# Altium integrated library Analog Devices RF IF PLL Synthesizers and VCOs.IntLib: 183 symbols (part 2 of 15)
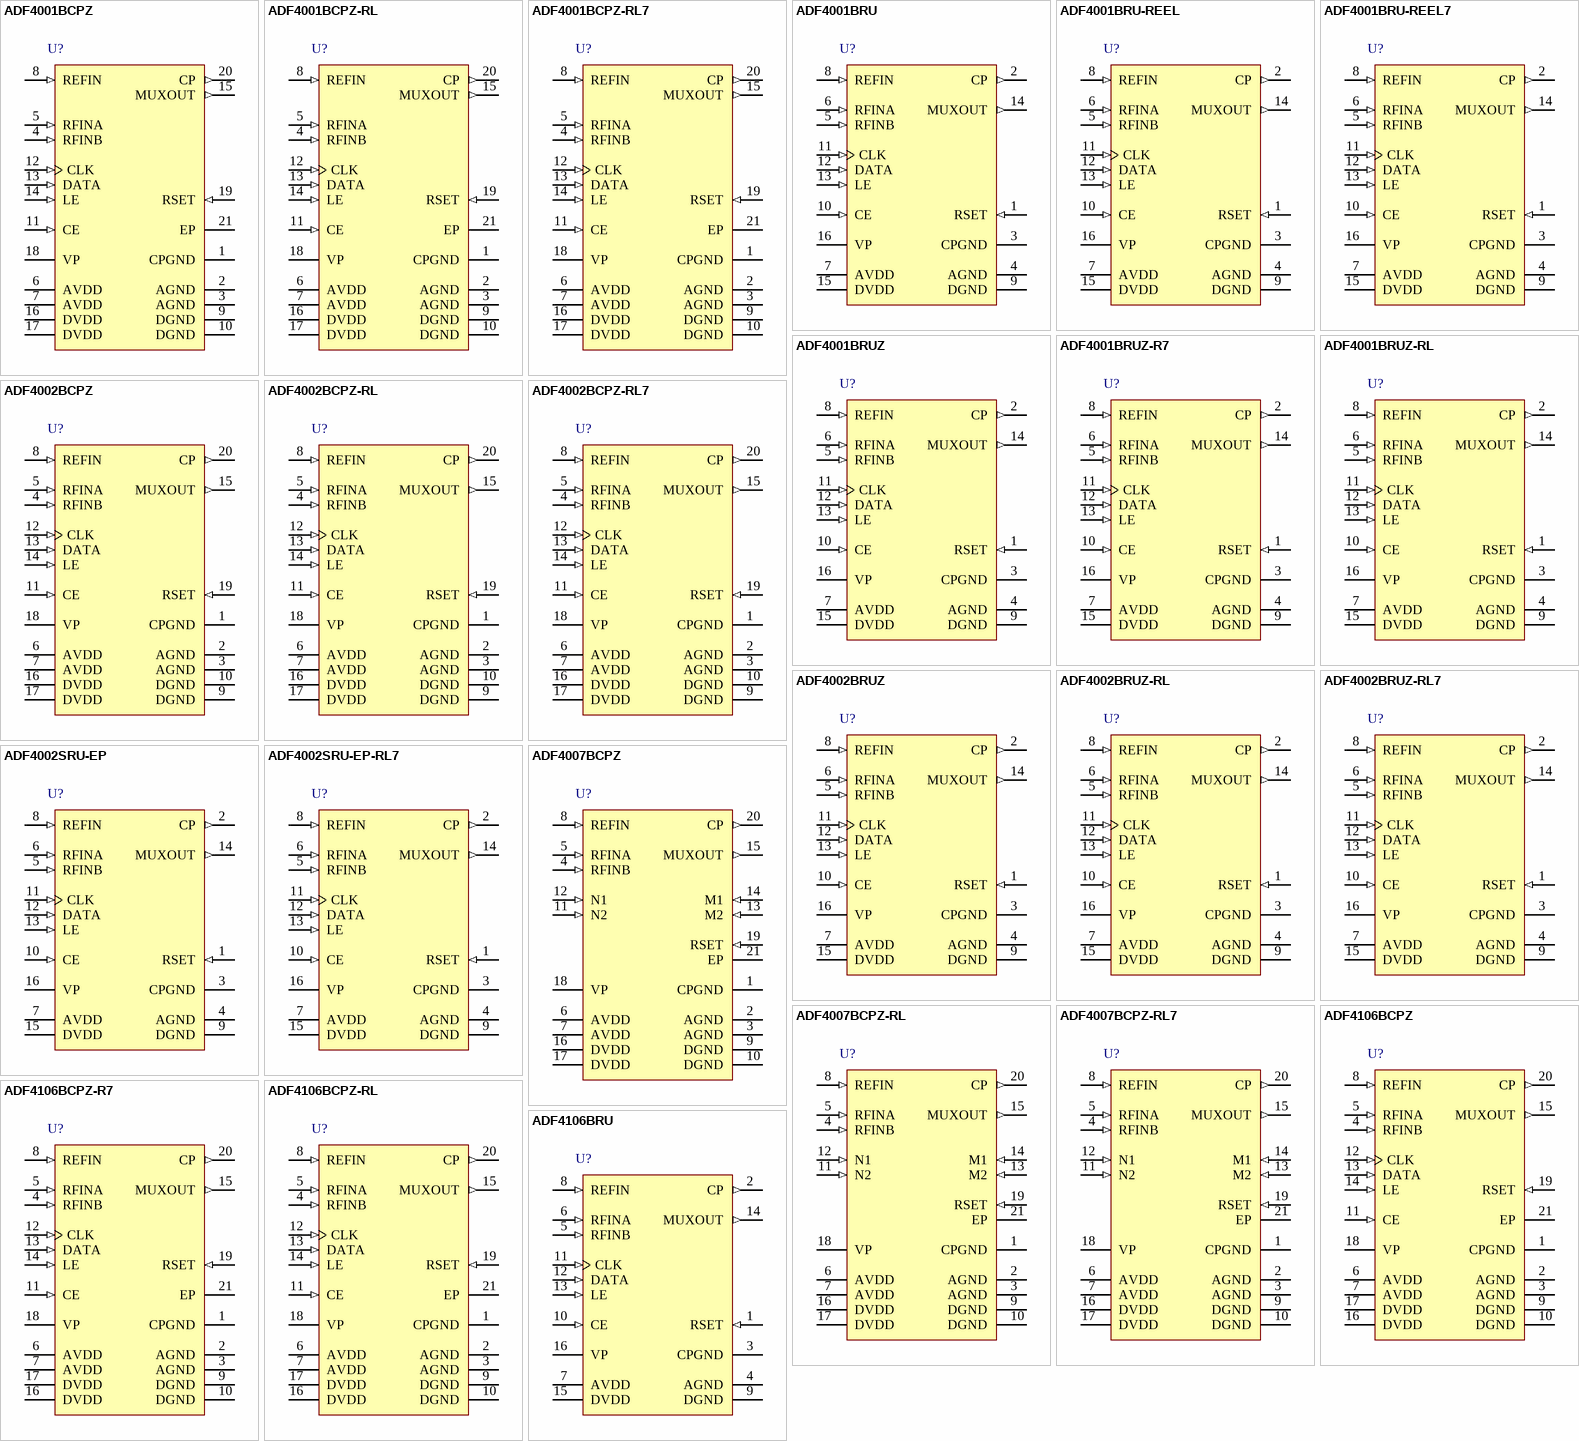
[diagram p9: symbols ADF4001BCPZ to ADF4106BRU]

## ADF4002BRUZ-RL
designator U?
Phase Detector/Frequency Synthesizer, RU-16, Pb-Free, 2500 Reel; Single/Dual: Single; Max RF Input (MHz): 400MHz; Max REFin (MHz): 300MHz; Norm Phase Noise (dBc/Hz): -222dBc; Frequency Range: 5MHz-400MHz; Supply Current: 5mA; DatasheetVersion: Rev. B; PackageVersion: Nov-2002; PackageReference: RU-16; PackageDescription: 16-Lead Thin Shrink Small Outline Package [TSSOP]; Code_JEDEC: MO-153AB; ComponentLink1Description: Manufacturer URL; ComponentLink1URL: www.analog.com; ComponentLink2Description: Datasheet; ComponentLink2URL: http://www.analog.com/static/imported-files/data_sheets/ADF4002.pdf; ComponentLink3Description: Package Specification; ComponentLink3URL: http://www.analog.com/static/imported-files/packages/36244347913743854010197452789RU16.pdf
footprint ADI-RU-16_N (TSOP, 16-Leads, Body 5x4.4mm, Pitch 0.65mm, IPC Medium Density)
footprint ADI-RU-16_L (TSOP, 16-Leads, Body 5x4.4mm, Pitch 0.65mm, IPC High Density)
footprint ADI-RU-16_M (TSOP, 16-Leads, Body 5x4.4mm, Pitch 0.65mm, IPC Low Density)
pins: 1 RSET (in) "Connecting a resistor between this pin and CPGND sets the maximum charge pump output current. The nominal voltage potential at the RSET pin is 0.66 V. [see datasheet]", 2 CP (out) "Charge Pump Output. When enabled, this provides ±ICP to the external loop filter that, in turn, drives the external VCO.", 3 CPGND (power) "Charge Pump Ground. This is the ground return path for the charge pump.", 4 AGND (power) "Analog Ground. This is the ground return path of the RF input.", 5 RFINB (in) "Complementary Input to the RF Input. This point must be decoupled to the ground plane with a small bypass capacitor, typically 100 pF. See Figure 11.", 6 RFINA (in) "Input to the RF Input. This small signal input is ac-coupled to the external VCO.", 7 AVDD (power) "Analog Power Supply. This can range from 2.7 V to 3.3 V. Decoupling capacitors to the analog ground plane should be placed as close as possible to the AVDD pin. [see datasheet]", 8 REFIN (in) "Reference Input. This is a CMOS input with a nominal threshold of VDD/2 and a dc equivalent input resistance of 100 kO. See Figure 10. [see datasheet]", 9 DGND (power) "Digital Ground.", 10 CE (in) "Chip Enable. A logic low on this pin powers down the device and puts the charge pump output into three-state mode. [see datasheet]", 11 CLK (in) "Serial Clock Input. This serial clock is used to clock in the serial data to the registers. The data is latched into the 24-bit shift register on the CLK rising edge. [see datasheet]", 12 DATA (in) "Serial Data Input. The serial data is loaded MSB first with the two LSBs being the control bits. This input is a high impedance CMOS input.", 13 LE (in) "Load Enable, CMOS Input. When LE goes high, the data stored in the shift registers is loaded into one of the four latches; the latch is selected using the control bits.", 14 MUXOUT (out) "Multiplexer Output. This allows either the lock detect, the scaled RF, or the scaled reference frequency to be accessed externally.", 15 DVDD (power) "Digital Power Supply. This can range from 2.7 V to 3.3 V. Decoupling capacitors to the digital ground plane should be placed as close as possible to this pin. [see datasheet]", 16 VP (power) "Charge Pump Power Supply. This should be greater than or equal to VDD. In systems where VDD is 3 V, it can be set to 5.5 V and used to drive a VCO with a tuning range of up to 5 V."

## ADF4002BRUZ-RL7
designator U?
Phase Detector/Frequency Synthesizer, RU-16, Pb-Free, 1000 Reel; Single/Dual: Single; Max RF Input (MHz): 400MHz; Max REFin (MHz): 300MHz; Norm Phase Noise (dBc/Hz): -222dBc; Frequency Range: 5MHz-400MHz; Supply Current: 5mA; DatasheetVersion: Rev. B; PackageVersion: Nov-2002; PackageReference: RU-16; PackageDescription: 16-Lead Thin Shrink Small Outline Package [TSSOP]; Code_JEDEC: MO-153AB; ComponentLink1Description: Manufacturer URL; ComponentLink1URL: www.analog.com; ComponentLink2Description: Datasheet; ComponentLink2URL: http://www.analog.com/static/imported-files/data_sheets/ADF4002.pdf; ComponentLink3Description: Package Specification; ComponentLink3URL: http://www.analog.com/static/imported-files/packages/36244347913743854010197452789RU16.pdf
footprint ADI-RU-16_N (TSOP, 16-Leads, Body 5x4.4mm, Pitch 0.65mm, IPC Medium Density)
footprint ADI-RU-16_L (TSOP, 16-Leads, Body 5x4.4mm, Pitch 0.65mm, IPC High Density)
footprint ADI-RU-16_M (TSOP, 16-Leads, Body 5x4.4mm, Pitch 0.65mm, IPC Low Density)
pins: 1 RSET (in) "Connecting a resistor between this pin and CPGND sets the maximum charge pump output current. The nominal voltage potential at the RSET pin is 0.66 V. [see datasheet]", 2 CP (out) "Charge Pump Output. When enabled, this provides ±ICP to the external loop filter that, in turn, drives the external VCO.", 3 CPGND (power) "Charge Pump Ground. This is the ground return path for the charge pump.", 4 AGND (power) "Analog Ground. This is the ground return path of the RF input.", 5 RFINB (in) "Complementary Input to the RF Input. This point must be decoupled to the ground plane with a small bypass capacitor, typically 100 pF. See Figure 11.", 6 RFINA (in) "Input to the RF Input. This small signal input is ac-coupled to the external VCO.", 7 AVDD (power) "Analog Power Supply. This can range from 2.7 V to 3.3 V. Decoupling capacitors to the analog ground plane should be placed as close as possible to the AVDD pin. [see datasheet]", 8 REFIN (in) "Reference Input. This is a CMOS input with a nominal threshold of VDD/2 and a dc equivalent input resistance of 100 kO. See Figure 10. [see datasheet]", 9 DGND (power) "Digital Ground.", 10 CE (in) "Chip Enable. A logic low on this pin powers down the device and puts the charge pump output into three-state mode. [see datasheet]", 11 CLK (in) "Serial Clock Input. This serial clock is used to clock in the serial data to the registers. The data is latched into the 24-bit shift register on the CLK rising edge. [see datasheet]", 12 DATA (in) "Serial Data Input. The serial data is loaded MSB first with the two LSBs being the control bits. This input is a high impedance CMOS input.", 13 LE (in) "Load Enable, CMOS Input. When LE goes high, the data stored in the shift registers is loaded into one of the four latches; the latch is selected using the control bits.", 14 MUXOUT (out) "Multiplexer Output. This allows either the lock detect, the scaled RF, or the scaled reference frequency to be accessed externally.", 15 DVDD (power) "Digital Power Supply. This can range from 2.7 V to 3.3 V. Decoupling capacitors to the digital ground plane should be placed as close as possible to this pin. [see datasheet]", 16 VP (power) "Charge Pump Power Supply. This should be greater than or equal to VDD. In systems where VDD is 3 V, it can be set to 5.5 V and used to drive a VCO with a tuning range of up to 5 V."

## ADF4002SRU-EP
designator U?
Phase Detector/Frequency Synthesizer, RU-16, 96 Tube; Single/Dual: Single; Max RF Input (MHz): 400MHz; Max REFin (MHz): 300MHz; Norm Phase Noise (dBc/Hz): -222dBc; Frequency Range: 5MHz-400MHz; Supply Current: 5mA; DatasheetVersion: Rev. B; PackageVersion: Nov-2002; PackageReference: RU-16; PackageDescription: 16-Lead Thin Shrink Small Outline Package [TSSOP]; Code_JEDEC: MO-153AB; ComponentLink1Description: Manufacturer URL; ComponentLink1URL: www.analog.com; ComponentLink2Description: Datasheet; ComponentLink2URL: http://www.analog.com/static/imported-files/data_sheets/ADF4002.pdf; ComponentLink3Description: Package Specification; ComponentLink3URL: http://www.analog.com/static/imported-files/packages/36244347913743854010197452789RU16.pdf
footprint ADI-RU-16_N (TSOP, 16-Leads, Body 5x4.4mm, Pitch 0.65mm, IPC Medium Density)
footprint ADI-RU-16_L (TSOP, 16-Leads, Body 5x4.4mm, Pitch 0.65mm, IPC High Density)
footprint ADI-RU-16_M (TSOP, 16-Leads, Body 5x4.4mm, Pitch 0.65mm, IPC Low Density)
pins: 1 RSET (in) "Connecting a resistor between this pin and CPGND sets the maximum charge pump output current. The nominal voltage potential at the RSET pin is 0.66 V. [see datasheet]", 2 CP (out) "Charge Pump Output. When enabled, this provides ±ICP to the external loop filter that, in turn, drives the external VCO.", 3 CPGND (power) "Charge Pump Ground. This is the ground return path for the charge pump.", 4 AGND (power) "Analog Ground. This is the ground return path of the RF input.", 5 RFINB (in) "Complementary Input to the RF Input. This point must be decoupled to the ground plane with a small bypass capacitor, typically 100 pF. See Figure 11.", 6 RFINA (in) "Input to the RF Input. This small signal input is ac-coupled to the external VCO.", 7 AVDD (power) "Analog Power Supply. This can range from 2.7 V to 3.3 V. Decoupling capacitors to the analog ground plane should be placed as close as possible to the AVDD pin. [see datasheet]", 8 REFIN (in) "Reference Input. This is a CMOS input with a nominal threshold of VDD/2 and a dc equivalent input resistance of 100 kO. See Figure 10. [see datasheet]", 9 DGND (power) "Digital Ground.", 10 CE (in) "Chip Enable. A logic low on this pin powers down the device and puts the charge pump output into three-state mode. [see datasheet]", 11 CLK (in) "Serial Clock Input. This serial clock is used to clock in the serial data to the registers. The data is latched into the 24-bit shift register on the CLK rising edge. [see datasheet]", 12 DATA (in) "Serial Data Input. The serial data is loaded MSB first with the two LSBs being the control bits. This input is a high impedance CMOS input.", 13 LE (in) "Load Enable, CMOS Input. When LE goes high, the data stored in the shift registers is loaded into one of the four latches; the latch is selected using the control bits.", 14 MUXOUT (out) "Multiplexer Output. This allows either the lock detect, the scaled RF, or the scaled reference frequency to be accessed externally.", 15 DVDD (power) "Digital Power Supply. This can range from 2.7 V to 3.3 V. Decoupling capacitors to the digital ground plane should be placed as close as possible to this pin. [see datasheet]", 16 VP (power) "Charge Pump Power Supply. This should be greater than or equal to VDD. In systems where VDD is 3 V, it can be set to 5.5 V and used to drive a VCO with a tuning range of up to 5 V."

## ADF4002SRU-EP-RL7
designator U?
Phase Detector/Frequency Synthesizer, RU-16, 1000 Reel; Single/Dual: Single; Max RF Input (MHz): 400MHz; Max REFin (MHz): 300MHz; Norm Phase Noise (dBc/Hz): -222dBc; Frequency Range: 5MHz-400MHz; Supply Current: 5mA; DatasheetVersion: Rev. B; PackageVersion: Nov-2002; PackageReference: RU-16; PackageDescription: 16-Lead Thin Shrink Small Outline Package [TSSOP]; Code_JEDEC: MO-153AB; ComponentLink1Description: Manufacturer URL; ComponentLink1URL: www.analog.com; ComponentLink2Description: Datasheet; ComponentLink2URL: http://www.analog.com/static/imported-files/data_sheets/ADF4002.pdf; ComponentLink3Description: Package Specification; ComponentLink3URL: http://www.analog.com/static/imported-files/packages/36244347913743854010197452789RU16.pdf
footprint ADI-RU-16_N (TSOP, 16-Leads, Body 5x4.4mm, Pitch 0.65mm, IPC Medium Density)
footprint ADI-RU-16_L (TSOP, 16-Leads, Body 5x4.4mm, Pitch 0.65mm, IPC High Density)
footprint ADI-RU-16_M (TSOP, 16-Leads, Body 5x4.4mm, Pitch 0.65mm, IPC Low Density)
pins: 1 RSET (in) "Connecting a resistor between this pin and CPGND sets the maximum charge pump output current. The nominal voltage potential at the RSET pin is 0.66 V. [see datasheet]", 2 CP (out) "Charge Pump Output. When enabled, this provides ±ICP to the external loop filter that, in turn, drives the external VCO.", 3 CPGND (power) "Charge Pump Ground. This is the ground return path for the charge pump.", 4 AGND (power) "Analog Ground. This is the ground return path of the RF input.", 5 RFINB (in) "Complementary Input to the RF Input. This point must be decoupled to the ground plane with a small bypass capacitor, typically 100 pF. See Figure 11.", 6 RFINA (in) "Input to the RF Input. This small signal input is ac-coupled to the external VCO.", 7 AVDD (power) "Analog Power Supply. This can range from 2.7 V to 3.3 V. Decoupling capacitors to the analog ground plane should be placed as close as possible to the AVDD pin. [see datasheet]", 8 REFIN (in) "Reference Input. This is a CMOS input with a nominal threshold of VDD/2 and a dc equivalent input resistance of 100 kO. See Figure 10. [see datasheet]", 9 DGND (power) "Digital Ground.", 10 CE (in) "Chip Enable. A logic low on this pin powers down the device and puts the charge pump output into three-state mode. [see datasheet]", 11 CLK (in) "Serial Clock Input. This serial clock is used to clock in the serial data to the registers. The data is latched into the 24-bit shift register on the CLK rising edge. [see datasheet]", 12 DATA (in) "Serial Data Input. The serial data is loaded MSB first with the two LSBs being the control bits. This input is a high impedance CMOS input.", 13 LE (in) "Load Enable, CMOS Input. When LE goes high, the data stored in the shift registers is loaded into one of the four latches; the latch is selected using the control bits.", 14 MUXOUT (out) "Multiplexer Output. This allows either the lock detect, the scaled RF, or the scaled reference frequency to be accessed externally.", 15 DVDD (power) "Digital Power Supply. This can range from 2.7 V to 3.3 V. Decoupling capacitors to the digital ground plane should be placed as close as possible to this pin. [see datasheet]", 16 VP (power) "Charge Pump Power Supply. This should be greater than or equal to VDD. In systems where VDD is 3 V, it can be set to 5.5 V and used to drive a VCO with a tuning range of up to 5 V."

## ADF4007BCPZ
designator U?
High Frequency Divider/PLL Synthesizer, CP-20-1, Pb-Free, 490 Tray; Single/Dual: Single; Max RF Input (MHz): 7.5GHz; RF Prescalers: N counter = 8/16/32/64; Max REFin (MHz): 240MHz; Norm Phase Noise (dBc/Hz): -219dBc; Frequency Range: 1GHz-7GHz; Supply Current: 13mA; DatasheetVersion: Rev. A; PackageVersion: 012508-B; PackageReference: CP-20-1; PackageDescription: 20-Lead Lead Frame Chip Scale Package [LFCSP_VQ]; Code_JEDEC: MO-220-VGGD-1; ComponentLink1Description: Manufacturer URL; ComponentLink1URL: www.analog.com; ComponentLink2Description: Datasheet; ComponentLink2URL: http://www.analog.com/static/imported-files/data_sheets/ADF4007.pdf; ComponentLink3Description: Package Specification; ComponentLink3URL: http://www.analog.com/static/imported-files/packages/PKG_PDF/LFCSP(CP)/CP_20_1.pdf
footprint ADI-CP-20-1_N (QFN, 20-Leads, Body 4x4mm, Pitch 0.5mm, Thermal Pad 2.2x2.2mm, IPC Medium Density)
footprint ADI-CP-20-1_L (QFN, 20-Leads, Body 4x4mm, Pitch 0.5mm, Thermal Pad 2.2x2.2mm, IPC High Density)
footprint ADI-CP-20-1_M (QFN, 20-Leads, Body 4x4mm, Pitch 0.5mm, Thermal Pad 2.2x2.2mm, IPC Low Density)
pins: 1 CPGND (power) "Charge Pump Ground. The ground return path of the charge pump.", 2 AGND (power) "Analog Ground. The ground return path of the prescaler.", 3 AGND (power) "Analog Ground. The ground return path of the prescaler.", 4 RFINB (in) "Complementary Input to the RF Prescaler. This point must be decoupled to the ground plane with a small bypass capacitor, typically 100 pF.", 5 RFINA (in) "Input to the RF Prescaler. This small signal input is ac-coupled to the external VCO.", 6 AVDD (power) "Analog Power Supply. This pin can range from 2.7 V to 3.3 V. Decoupling capacitors to the analog ground plane should be placed as close as possible to this pin. [see datasheet]", 7 AVDD (power) "Analog Power Supply. This pin can range from 2.7 V to 3.3 V. Decoupling capacitors to the analog ground plane should be placed as close as possible to this pin. [see datasheet]", 8 REFIN (in) "Reference Input. A CMOS input with a nominal threshold of VDD/2 and a dc equivalent input resistance of 100 k ohm. [see datasheet]", 9 DGND (power) "Digital Ground.", 10 DGND (power) "Digital Ground.", 11 N2 (in) "These two bits set the N value. See Table 4.", 12 N1 (in) "These two bits set the N value. See Table 4.", 13 M2 (in) "These two bits set the status of MUXOUT and PFD polarity. See Table 5.", 14 M1 (in) "These two bits set the status of MUXOUT and PFD polarity. See Table 5.", 15 MUXOUT (out) "This multiplexer output allows either the N divider output or the R divider output to be accessed externally.", 16 DVDD (power) "Digital Power Supply. This pin can range from 2.7 V to 3.3 V. Decoupling capacitors to the digital ground plane should be placed as close as possible to this pin. [see datasheet]", 17 DVDD (power) "Digital Power Supply. This pin can range from 2.7 V to 3.3 V. Decoupling capacitors to the digital ground plane should be placed as close as possible to this pin. [see datasheet]", 18 VP (power) "Charge Pump Power Supply. This pin should be greater than or equal to VDD. In systems where VDD is 3 V, it can be set to 5 V and used to drive a VCO with a tuning range of up to 5 V.", 19 RSET (in) "Connecting a resistor between this pin and CPGND sets the maximum charge pump output current. The nominal voltage potential at the RSET pin is 0.66 V. [see datasheet]", 20 CP (out) "Charge Pump Output. When enabled, this pin provides +/-ICP to the external loop filter, which in turn drives the external VCO.", 21 EP (power) "Exposed Pad."

## ADF4007BCPZ-RL
designator U?
High Frequency Divider/PLL Synthesizer, CP-20-1, Pb-Free, 5000 Reel; Single/Dual: Single; Max RF Input (MHz): 7.5GHz; RF Prescalers: N counter = 8/16/32/64; Max REFin (MHz): 240MHz; Norm Phase Noise (dBc/Hz): -219dBc; Frequency Range: 1GHz-7GHz; Supply Current: 13mA; DatasheetVersion: Rev. A; PackageVersion: 012508-B; PackageReference: CP-20-1; PackageDescription: 20-Lead Lead Frame Chip Scale Package [LFCSP_VQ]; Code_JEDEC: MO-220-VGGD-1; ComponentLink1Description: Manufacturer URL; ComponentLink1URL: www.analog.com; ComponentLink2Description: Datasheet; ComponentLink2URL: http://www.analog.com/static/imported-files/data_sheets/ADF4007.pdf; ComponentLink3Description: Package Specification; ComponentLink3URL: http://www.analog.com/static/imported-files/packages/PKG_PDF/LFCSP(CP)/CP_20_1.pdf
footprint ADI-CP-20-1_N (QFN, 20-Leads, Body 4x4mm, Pitch 0.5mm, Thermal Pad 2.2x2.2mm, IPC Medium Density)
footprint ADI-CP-20-1_L (QFN, 20-Leads, Body 4x4mm, Pitch 0.5mm, Thermal Pad 2.2x2.2mm, IPC High Density)
footprint ADI-CP-20-1_M (QFN, 20-Leads, Body 4x4mm, Pitch 0.5mm, Thermal Pad 2.2x2.2mm, IPC Low Density)
pins: 1 CPGND (power) "Charge Pump Ground. The ground return path of the charge pump.", 2 AGND (power) "Analog Ground. The ground return path of the prescaler.", 3 AGND (power) "Analog Ground. The ground return path of the prescaler.", 4 RFINB (in) "Complementary Input to the RF Prescaler. This point must be decoupled to the ground plane with a small bypass capacitor, typically 100 pF.", 5 RFINA (in) "Input to the RF Prescaler. This small signal input is ac-coupled to the external VCO.", 6 AVDD (power) "Analog Power Supply. This pin can range from 2.7 V to 3.3 V. Decoupling capacitors to the analog ground plane should be placed as close as possible to this pin. [see datasheet]", 7 AVDD (power) "Analog Power Supply. This pin can range from 2.7 V to 3.3 V. Decoupling capacitors to the analog ground plane should be placed as close as possible to this pin. [see datasheet]", 8 REFIN (in) "Reference Input. A CMOS input with a nominal threshold of VDD/2 and a dc equivalent input resistance of 100 k ohm. [see datasheet]", 9 DGND (power) "Digital Ground.", 10 DGND (power) "Digital Ground.", 11 N2 (in) "These two bits set the N value. See Table 4.", 12 N1 (in) "These two bits set the N value. See Table 4.", 13 M2 (in) "These two bits set the status of MUXOUT and PFD polarity. See Table 5.", 14 M1 (in) "These two bits set the status of MUXOUT and PFD polarity. See Table 5.", 15 MUXOUT (out) "This multiplexer output allows either the N divider output or the R divider output to be accessed externally.", 16 DVDD (power) "Digital Power Supply. This pin can range from 2.7 V to 3.3 V. Decoupling capacitors to the digital ground plane should be placed as close as possible to this pin. [see datasheet]", 17 DVDD (power) "Digital Power Supply. This pin can range from 2.7 V to 3.3 V. Decoupling capacitors to the digital ground plane should be placed as close as possible to this pin. [see datasheet]", 18 VP (power) "Charge Pump Power Supply. This pin should be greater than or equal to VDD. In systems where VDD is 3 V, it can be set to 5 V and used to drive a VCO with a tuning range of up to 5 V.", 19 RSET (in) "Connecting a resistor between this pin and CPGND sets the maximum charge pump output current. The nominal voltage potential at the RSET pin is 0.66 V. [see datasheet]", 20 CP (out) "Charge Pump Output. When enabled, this pin provides +/-ICP to the external loop filter, which in turn drives the external VCO.", 21 EP (power) "Exposed Pad."

## ADF4007BCPZ-RL7
designator U?
High Frequency Divider/PLL Synthesizer, CP-20-1, Pb-Free, 1500 Reel; Single/Dual: Single; Max RF Input (MHz): 7.5GHz; RF Prescalers: N counter = 8/16/32/64; Max REFin (MHz): 240MHz; Norm Phase Noise (dBc/Hz): -219dBc; Frequency Range: 1GHz-7GHz; Supply Current: 13mA; DatasheetVersion: Rev. A; PackageVersion: 012508-B; PackageReference: CP-20-1; PackageDescription: 20-Lead Lead Frame Chip Scale Package [LFCSP_VQ]; Code_JEDEC: MO-220-VGGD-1; ComponentLink1Description: Manufacturer URL; ComponentLink1URL: www.analog.com; ComponentLink2Description: Datasheet; ComponentLink2URL: http://www.analog.com/static/imported-files/data_sheets/ADF4007.pdf; ComponentLink3Description: Package Specification; ComponentLink3URL: http://www.analog.com/static/imported-files/packages/PKG_PDF/LFCSP(CP)/CP_20_1.pdf
footprint ADI-CP-20-1_N (QFN, 20-Leads, Body 4x4mm, Pitch 0.5mm, Thermal Pad 2.2x2.2mm, IPC Medium Density)
footprint ADI-CP-20-1_L (QFN, 20-Leads, Body 4x4mm, Pitch 0.5mm, Thermal Pad 2.2x2.2mm, IPC High Density)
footprint ADI-CP-20-1_M (QFN, 20-Leads, Body 4x4mm, Pitch 0.5mm, Thermal Pad 2.2x2.2mm, IPC Low Density)
pins: 1 CPGND (power) "Charge Pump Ground. The ground return path of the charge pump.", 2 AGND (power) "Analog Ground. The ground return path of the prescaler.", 3 AGND (power) "Analog Ground. The ground return path of the prescaler.", 4 RFINB (in) "Complementary Input to the RF Prescaler. This point must be decoupled to the ground plane with a small bypass capacitor, typically 100 pF.", 5 RFINA (in) "Input to the RF Prescaler. This small signal input is ac-coupled to the external VCO.", 6 AVDD (power) "Analog Power Supply. This pin can range from 2.7 V to 3.3 V. Decoupling capacitors to the analog ground plane should be placed as close as possible to this pin. [see datasheet]", 7 AVDD (power) "Analog Power Supply. This pin can range from 2.7 V to 3.3 V. Decoupling capacitors to the analog ground plane should be placed as close as possible to this pin. [see datasheet]", 8 REFIN (in) "Reference Input. A CMOS input with a nominal threshold of VDD/2 and a dc equivalent input resistance of 100 k ohm. [see datasheet]", 9 DGND (power) "Digital Ground.", 10 DGND (power) "Digital Ground.", 11 N2 (in) "These two bits set the N value. See Table 4.", 12 N1 (in) "These two bits set the N value. See Table 4.", 13 M2 (in) "These two bits set the status of MUXOUT and PFD polarity. See Table 5.", 14 M1 (in) "These two bits set the status of MUXOUT and PFD polarity. See Table 5.", 15 MUXOUT (out) "This multiplexer output allows either the N divider output or the R divider output to be accessed externally.", 16 DVDD (power) "Digital Power Supply. This pin can range from 2.7 V to 3.3 V. Decoupling capacitors to the digital ground plane should be placed as close as possible to this pin. [see datasheet]", 17 DVDD (power) "Digital Power Supply. This pin can range from 2.7 V to 3.3 V. Decoupling capacitors to the digital ground plane should be placed as close as possible to this pin. [see datasheet]", 18 VP (power) "Charge Pump Power Supply. This pin should be greater than or equal to VDD. In systems where VDD is 3 V, it can be set to 5 V and used to drive a VCO with a tuning range of up to 5 V.", 19 RSET (in) "Connecting a resistor between this pin and CPGND sets the maximum charge pump output current. The nominal voltage potential at the RSET pin is 0.66 V. [see datasheet]", 20 CP (out) "Charge Pump Output. When enabled, this pin provides +/-ICP to the external loop filter, which in turn drives the external VCO.", 21 EP (power) "Exposed Pad."

## ADF4106BCPZ
designator U?
PLL Frequency Synthesizer, CP-20-1, Pb-Free, 490 Tray; Single/Dual: Single; Max RF Input (MHz): 6GHz; RF Prescalers: 16/17, 32/33, 64/65, 8/9; Max REFin (MHz): 300MHz; Norm Phase Noise (dBc/Hz): -223dBc; Frequency Range: 500MHz-6GHz; Supply Current: 10.5mA; DatasheetVersion: Rev. D; PackageVersion: 012508-B; PackageReference: CP-20-1; PackageDescription: 20-Lead Lead Frame Chip Scale Package [LFCSP_VQ]; Code_JEDEC: MO-220-VGGD-1; ComponentLink1Description: Manufacturer URL; ComponentLink1URL: www.analog.com; ComponentLink2Description: Datasheet; ComponentLink2URL: http://www.analog.com/static/imported-files/data_sheets/ADF4106.pdf; ComponentLink3Description: Package Specification; ComponentLink3URL: http://www.analog.com/static/imported-files/packages/PKG_PDF/LFCSP(CP)/CP_20_1.pdf
footprint ADI-CP-20-1_N (QFN, 20-Leads, Body 4x4mm, Pitch 0.5mm, Thermal Pad 2.2x2.2mm, IPC Medium Density)
footprint ADI-CP-20-1_L (QFN, 20-Leads, Body 4x4mm, Pitch 0.5mm, Thermal Pad 2.2x2.2mm, IPC High Density)
footprint ADI-CP-20-1_M (QFN, 20-Leads, Body 4x4mm, Pitch 0.5mm, Thermal Pad 2.2x2.2mm, IPC Low Density)
pins: 1 CPGND (power) "Charge Pump Ground. This is the ground return path for the charge pump", 2 AGND (power) "Analog Ground. This is the ground return path of the prescaler", 3 AGND (power) "Analog Ground. This is the ground return path of the prescaler", 4 RFINB (in) "Complementary Input to the RF Prescaler. This point must be decoupled to the ground plane with a small bypass capacitor, typically 100 pF", 5 RFINA (in) "Input to the RF Prescaler. This small signal input is ac-coupled to the external VCO", 6 AVDD (power) "Analog Power Supply. This may range from 2.7 V to 3.3 V. Decoupling capacitors to the analog ground plane should be placed as close as possible to this pin. [see datasheet]", 7 AVDD (power) "Analog Power Supply. This may range from 2.7 V to 3.3 V. Decoupling capacitors to the analog ground plane should be placed as close as possible to this pin. [see datasheet]", 8 REFIN (in) "Reference Input. This is a CMOS input with a nominal threshold of VDD/2 and a dc equivalent input resistance of 100 k ohm. See Figure 18. [see datasheet]", 9 DGND (power) "Digital Ground", 10 DGND (power) "Digital Ground", 11 CE (in) "Chip Enable. A logic low on this pin powers down the device and puts the charge pump output into three-state mode. [see datasheet]", 12 CLK (in) "Serial Clock Input. This serial clock is used to clock in the serial data to the registers. The data is latched into the 24-bit shift register on the CLK rising edge. [see datasheet]", 13 DATA (in) "Serial Data Input. The serial data is loaded MSB first with the two LSBs being the control bits. This input is a high impedance CMOS input", 14 LE (in) "Load Enable, CMOS Input. When LE goes high, the data stored in the shift registers is loaded into one of the four latches with the latch being selected using the control bits", 15 MUXOUT (out) "This multiplexer output allows either the lock detect, the scaled RF, or the scaled reference frequency to be accessed externally", 16 DVDD (power) "Digital Power Supply. This may range from 2.7 V to 3.3 V. Decoupling capacitors to the digital ground plane should be placed as close as possible to this pin. [see datasheet]", 17 DVDD (power) "Digital Power Supply. This may range from 2.7 V to 3.3 V. Decoupling capacitors to the digital ground plane should be placed as close as possible to this pin. [see datasheet]", 18 VP (power) "Charge Pump Power Supply. This should be greater than or equal to VDD. In systems where VDD is 3 V, it can be set to 5.5 V and used to drive a VCO with a tuning range of up to 5 V", 19 RSET (in) "Connecting a resistor between this pin and CPGND sets the maximum charge pump output current. The nominal voltage potential at the RSET pin is 0.66 V", 20 CP (out) "Charge Pump Output. When enabled, this provides +/-ICP to the external loop filter, which in turn drives the external VCO", 21 EP (power) "Exposed pad"

## ADF4106BCPZ-R7
designator U?
PLL Frequency Synthesizer, CP-20-1, Pb-Free, 1500 Reel; Single/Dual: Single; Max RF Input (MHz): 6GHz; RF Prescalers: 16/17, 32/33, 64/65, 8/9; Max REFin (MHz): 300MHz; Norm Phase Noise (dBc/Hz): -223dBc; Frequency Range: 500MHz-6GHz; Supply Current: 10.5mA; DatasheetVersion: Rev. D; PackageVersion: 012508-B; PackageReference: CP-20-1; PackageDescription: 20-Lead Lead Frame Chip Scale Package [LFCSP_VQ]; Code_JEDEC: MO-220-VGGD-1; ComponentLink1Description: Manufacturer URL; ComponentLink1URL: www.analog.com; ComponentLink2Description: Datasheet; ComponentLink2URL: http://www.analog.com/static/imported-files/data_sheets/ADF4106.pdf; ComponentLink3Description: Package Specification; ComponentLink3URL: http://www.analog.com/static/imported-files/packages/PKG_PDF/LFCSP(CP)/CP_20_1.pdf
footprint ADI-CP-20-1_N (QFN, 20-Leads, Body 4x4mm, Pitch 0.5mm, Thermal Pad 2.2x2.2mm, IPC Medium Density)
footprint ADI-CP-20-1_L (QFN, 20-Leads, Body 4x4mm, Pitch 0.5mm, Thermal Pad 2.2x2.2mm, IPC High Density)
footprint ADI-CP-20-1_M (QFN, 20-Leads, Body 4x4mm, Pitch 0.5mm, Thermal Pad 2.2x2.2mm, IPC Low Density)
pins: 1 CPGND (power) "Charge Pump Ground. This is the ground return path for the charge pump", 2 AGND (power) "Analog Ground. This is the ground return path of the prescaler", 3 AGND (power) "Analog Ground. This is the ground return path of the prescaler", 4 RFINB (in) "Complementary Input to the RF Prescaler. This point must be decoupled to the ground plane with a small bypass capacitor, typically 100 pF", 5 RFINA (in) "Input to the RF Prescaler. This small signal input is ac-coupled to the external VCO", 6 AVDD (power) "Analog Power Supply. This may range from 2.7 V to 3.3 V. Decoupling capacitors to the analog ground plane should be placed as close as possible to this pin. [see datasheet]", 7 AVDD (power) "Analog Power Supply. This may range from 2.7 V to 3.3 V. Decoupling capacitors to the analog ground plane should be placed as close as possible to this pin. [see datasheet]", 8 REFIN (in) "Reference Input. This is a CMOS input with a nominal threshold of VDD/2 and a dc equivalent input resistance of 100 k ohm. See Figure 18. [see datasheet]", 9 DGND (power) "Digital Ground", 10 DGND (power) "Digital Ground", 11 CE (in) "Chip Enable. A logic low on this pin powers down the device and puts the charge pump output into three-state mode. [see datasheet]", 12 CLK (in) "Serial Clock Input. This serial clock is used to clock in the serial data to the registers. The data is latched into the 24-bit shift register on the CLK rising edge. [see datasheet]", 13 DATA (in) "Serial Data Input. The serial data is loaded MSB first with the two LSBs being the control bits. This input is a high impedance CMOS input", 14 LE (in) "Load Enable, CMOS Input. When LE goes high, the data stored in the shift registers is loaded into one of the four latches with the latch being selected using the control bits", 15 MUXOUT (out) "This multiplexer output allows either the lock detect, the scaled RF, or the scaled reference frequency to be accessed externally", 16 DVDD (power) "Digital Power Supply. This may range from 2.7 V to 3.3 V. Decoupling capacitors to the digital ground plane should be placed as close as possible to this pin. [see datasheet]", 17 DVDD (power) "Digital Power Supply. This may range from 2.7 V to 3.3 V. Decoupling capacitors to the digital ground plane should be placed as close as possible to this pin. [see datasheet]", 18 VP (power) "Charge Pump Power Supply. This should be greater than or equal to VDD. In systems where VDD is 3 V, it can be set to 5.5 V and used to drive a VCO with a tuning range of up to 5 V", 19 RSET (in) "Connecting a resistor between this pin and CPGND sets the maximum charge pump output current. The nominal voltage potential at the RSET pin is 0.66 V", 20 CP (out) "Charge Pump Output. When enabled, this provides +/-ICP to the external loop filter, which in turn drives the external VCO", 21 EP (power) "Exposed pad"

## ADF4106BCPZ-RL
designator U?
PLL Frequency Synthesizer, CP-20-1, Pb-Free, 5000 Reel; Single/Dual: Single; Max RF Input (MHz): 6GHz; RF Prescalers: 16/17, 32/33, 64/65, 8/9; Max REFin (MHz): 300MHz; Norm Phase Noise (dBc/Hz): -223dBc; Frequency Range: 500MHz-6GHz; Supply Current: 10.5mA; DatasheetVersion: Rev. D; PackageVersion: 012508-B; PackageReference: CP-20-1; PackageDescription: 20-Lead Lead Frame Chip Scale Package [LFCSP_VQ]; Code_JEDEC: MO-220-VGGD-1; ComponentLink1Description: Manufacturer URL; ComponentLink1URL: www.analog.com; ComponentLink2Description: Datasheet; ComponentLink2URL: http://www.analog.com/static/imported-files/data_sheets/ADF4106.pdf; ComponentLink3Description: Package Specification; ComponentLink3URL: http://www.analog.com/static/imported-files/packages/PKG_PDF/LFCSP(CP)/CP_20_1.pdf
footprint ADI-CP-20-1_N (QFN, 20-Leads, Body 4x4mm, Pitch 0.5mm, Thermal Pad 2.2x2.2mm, IPC Medium Density)
footprint ADI-CP-20-1_L (QFN, 20-Leads, Body 4x4mm, Pitch 0.5mm, Thermal Pad 2.2x2.2mm, IPC High Density)
footprint ADI-CP-20-1_M (QFN, 20-Leads, Body 4x4mm, Pitch 0.5mm, Thermal Pad 2.2x2.2mm, IPC Low Density)
pins: 1 CPGND (power) "Charge Pump Ground. This is the ground return path for the charge pump", 2 AGND (power) "Analog Ground. This is the ground return path of the prescaler", 3 AGND (power) "Analog Ground. This is the ground return path of the prescaler", 4 RFINB (in) "Complementary Input to the RF Prescaler. This point must be decoupled to the ground plane with a small bypass capacitor, typically 100 pF", 5 RFINA (in) "Input to the RF Prescaler. This small signal input is ac-coupled to the external VCO", 6 AVDD (power) "Analog Power Supply. This may range from 2.7 V to 3.3 V. Decoupling capacitors to the analog ground plane should be placed as close as possible to this pin. [see datasheet]", 7 AVDD (power) "Analog Power Supply. This may range from 2.7 V to 3.3 V. Decoupling capacitors to the analog ground plane should be placed as close as possible to this pin. [see datasheet]", 8 REFIN (in) "Reference Input. This is a CMOS input with a nominal threshold of VDD/2 and a dc equivalent input resistance of 100 k ohm. See Figure 18. [see datasheet]", 9 DGND (power) "Digital Ground", 10 DGND (power) "Digital Ground", 11 CE (in) "Chip Enable. A logic low on this pin powers down the device and puts the charge pump output into three-state mode. [see datasheet]", 12 CLK (in) "Serial Clock Input. This serial clock is used to clock in the serial data to the registers. The data is latched into the 24-bit shift register on the CLK rising edge. [see datasheet]", 13 DATA (in) "Serial Data Input. The serial data is loaded MSB first with the two LSBs being the control bits. This input is a high impedance CMOS input", 14 LE (in) "Load Enable, CMOS Input. When LE goes high, the data stored in the shift registers is loaded into one of the four latches with the latch being selected using the control bits", 15 MUXOUT (out) "This multiplexer output allows either the lock detect, the scaled RF, or the scaled reference frequency to be accessed externally", 16 DVDD (power) "Digital Power Supply. This may range from 2.7 V to 3.3 V. Decoupling capacitors to the digital ground plane should be placed as close as possible to this pin. [see datasheet]", 17 DVDD (power) "Digital Power Supply. This may range from 2.7 V to 3.3 V. Decoupling capacitors to the digital ground plane should be placed as close as possible to this pin. [see datasheet]", 18 VP (power) "Charge Pump Power Supply. This should be greater than or equal to VDD. In systems where VDD is 3 V, it can be set to 5.5 V and used to drive a VCO with a tuning range of up to 5 V", 19 RSET (in) "Connecting a resistor between this pin and CPGND sets the maximum charge pump output current. The nominal voltage potential at the RSET pin is 0.66 V", 20 CP (out) "Charge Pump Output. When enabled, this provides +/-ICP to the external loop filter, which in turn drives the external VCO", 21 EP (power) "Exposed pad"

## ADF4106BRU
designator U?
PLL Frequency Synthesizer, RU-16, 96 Tube; Single/Dual: Single; Max RF Input (MHz): 6GHz; RF Prescalers: 16/17, 32/33, 64/65, 8/9; Max REFin (MHz): 300MHz; Norm Phase Noise (dBc/Hz): -223dBc; Frequency Range: 500MHz-6GHz; Supply Current: 10.5mA; DatasheetVersion: Rev. D; PackageVersion: Nov-2002; PackageReference: RU-16; PackageDescription: 16-Lead Thin Shrink Small Outline Package [TSSOP]; Code_JEDEC: MO-153AB; ComponentLink1Description: Manufacturer URL; ComponentLink1URL: www.analog.com; ComponentLink2Description: Datasheet; ComponentLink2URL: http://www.analog.com/static/imported-files/data_sheets/ADF4106.pdf; ComponentLink3Description: Package Specification; ComponentLink3URL: http://www.analog.com/static/imported-files/packages/36244347913743854010197452789RU16.pdf
footprint ADI-RU-16_N (TSOP, 16-Leads, Body 5x4.4mm, Pitch 0.65mm, IPC Medium Density)
footprint ADI-RU-16_L (TSOP, 16-Leads, Body 5x4.4mm, Pitch 0.65mm, IPC High Density)
footprint ADI-RU-16_M (TSOP, 16-Leads, Body 5x4.4mm, Pitch 0.65mm, IPC Low Density)
pins: 1 RSET (in) "Connecting a resistor between this pin and CPGND sets the maximum charge pump output current. The nominal voltage potential at the RSET pin is 0.66 V", 2 CP (out) "Charge Pump Output. When enabled, this provides +/-ICP to the external loop filter, which in turn drives the external VCO", 3 CPGND (power) "Charge Pump Ground. This is the ground return path for the charge pump", 4 AGND (power) "Analog Ground. This is the ground return path of the prescaler", 5 RFINB (in) "Complementary Input to the RF Prescaler. This point must be decoupled to the ground plane with a small bypass capacitor, typically 100 pF", 6 RFINA (in) "Input to the RF Prescaler. This small signal input is ac-coupled to the external VCO", 7 AVDD (power) "Analog Power Supply. This may range from 2.7 V to 3.3 V. Decoupling capacitors to the analog ground plane should be placed as close as possible to this pin. [see datasheet]", 8 REFIN (in) "Reference Input. This is a CMOS input with a nominal threshold of VDD/2 and a dc equivalent input resistance of 100 k ohm. See Figure 18. [see datasheet]", 9 DGND (power) "Digital Ground", 10 CE (in) "Chip Enable. A logic low on this pin powers down the device and puts the charge pump output into three-state mode. [see datasheet]", 11 CLK (in) "Serial Clock Input. This serial clock is used to clock in the serial data to the registers. The data is latched into the 24-bit shift register on the CLK rising edge. [see datasheet]", 12 DATA (in) "Serial Data Input. The serial data is loaded MSB first with the two LSBs being the control bits. This input is a high impedance CMOS input", 13 LE (in) "Load Enable, CMOS Input. When LE goes high, the data stored in the shift registers is loaded into one of the four latches with the latch being selected using the control bits", 14 MUXOUT (out) "This multiplexer output allows either the lock detect, the scaled RF, or the scaled reference frequency to be accessed externally", 15 DVDD (power) "Digital Power Supply. This may range from 2.7 V to 3.3 V. Decoupling capacitors to the digital ground plane should be placed as close as possible to this pin. [see datasheet]", 16 VP (power) "Charge Pump Power Supply. This should be greater than or equal to VDD. In systems where VDD is 3 V, it can be set to 5.5 V and used to drive a VCO with a tuning range of up to 5 V"

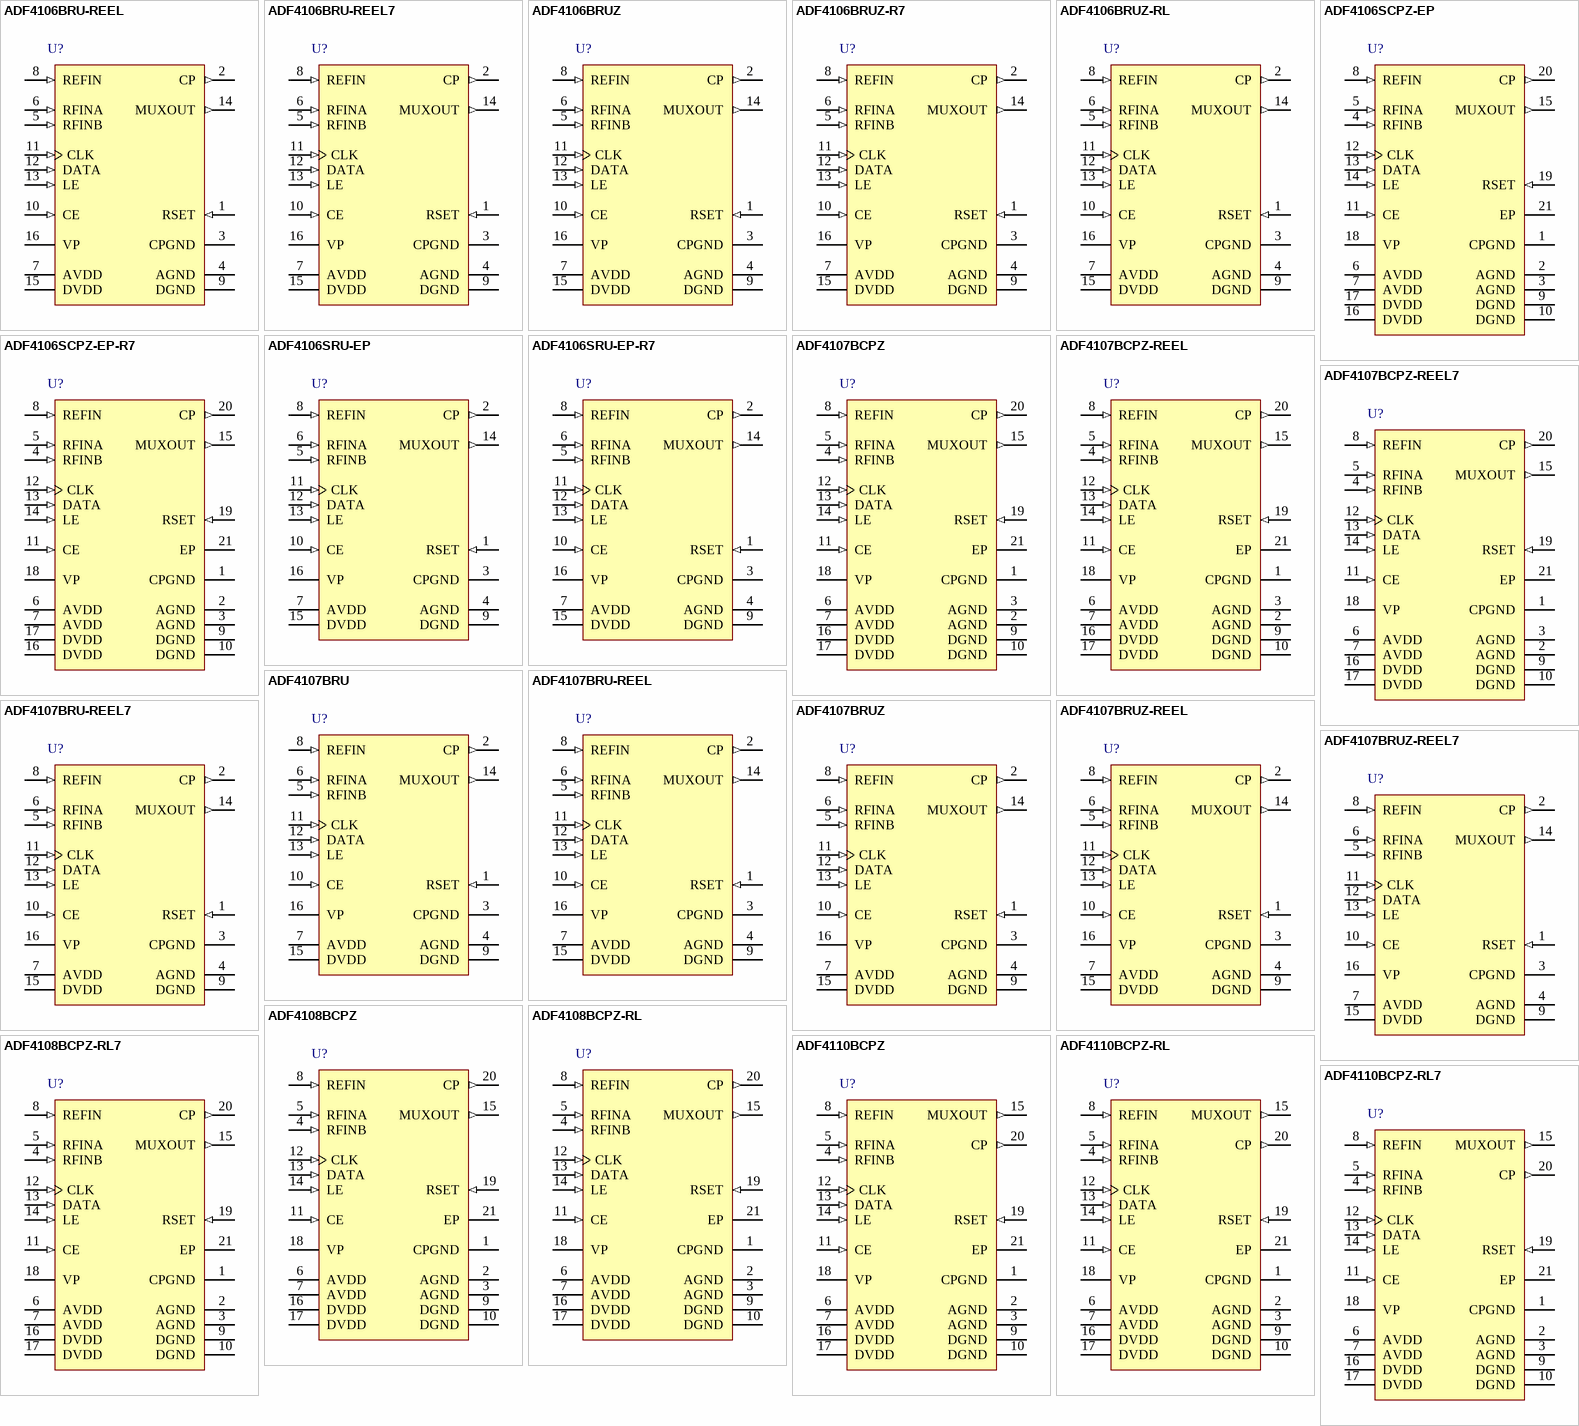
[diagram p1: symbols ADF4106BRU-REEL to ADF4110BCPZ-RL7]

## ADF4106BRU-REEL
designator U?
PLL Frequency Synthesizer, RU-16, 2500 Reel; Single/Dual: Single; Max RF Input (MHz): 6GHz; RF Prescalers: 16/17, 32/33, 64/65, 8/9; Max REFin (MHz): 300MHz; Norm Phase Noise (dBc/Hz): -223dBc; Frequency Range: 500MHz-6GHz; Supply Current: 10.5mA; DatasheetVersion: Rev. D; PackageVersion: Nov-2002; PackageReference: RU-16; PackageDescription: 16-Lead Thin Shrink Small Outline Package [TSSOP]; Code_JEDEC: MO-153AB; ComponentLink1Description: Manufacturer URL; ComponentLink1URL: www.analog.com; ComponentLink2Description: Datasheet; ComponentLink2URL: http://www.analog.com/static/imported-files/data_sheets/ADF4106.pdf; ComponentLink3Description: Package Specification; ComponentLink3URL: http://www.analog.com/static/imported-files/packages/36244347913743854010197452789RU16.pdf
footprint ADI-RU-16_N (TSOP, 16-Leads, Body 5x4.4mm, Pitch 0.65mm, IPC Medium Density)
footprint ADI-RU-16_L (TSOP, 16-Leads, Body 5x4.4mm, Pitch 0.65mm, IPC High Density)
footprint ADI-RU-16_M (TSOP, 16-Leads, Body 5x4.4mm, Pitch 0.65mm, IPC Low Density)
pins: 1 RSET (in) "Connecting a resistor between this pin and CPGND sets the maximum charge pump output current. The nominal voltage potential at the RSET pin is 0.66 V", 2 CP (out) "Charge Pump Output. When enabled, this provides +/-ICP to the external loop filter, which in turn drives the external VCO", 3 CPGND (power) "Charge Pump Ground. This is the ground return path for the charge pump", 4 AGND (power) "Analog Ground. This is the ground return path of the prescaler", 5 RFINB (in) "Complementary Input to the RF Prescaler. This point must be decoupled to the ground plane with a small bypass capacitor, typically 100 pF", 6 RFINA (in) "Input to the RF Prescaler. This small signal input is ac-coupled to the external VCO", 7 AVDD (power) "Analog Power Supply. This may range from 2.7 V to 3.3 V. Decoupling capacitors to the analog ground plane should be placed as close as possible to this pin. [see datasheet]", 8 REFIN (in) "Reference Input. This is a CMOS input with a nominal threshold of VDD/2 and a dc equivalent input resistance of 100 k ohm. See Figure 18. [see datasheet]", 9 DGND (power) "Digital Ground", 10 CE (in) "Chip Enable. A logic low on this pin powers down the device and puts the charge pump output into three-state mode. [see datasheet]", 11 CLK (in) "Serial Clock Input. This serial clock is used to clock in the serial data to the registers. The data is latched into the 24-bit shift register on the CLK rising edge. [see datasheet]", 12 DATA (in) "Serial Data Input. The serial data is loaded MSB first with the two LSBs being the control bits. This input is a high impedance CMOS input", 13 LE (in) "Load Enable, CMOS Input. When LE goes high, the data stored in the shift registers is loaded into one of the four latches with the latch being selected using the control bits", 14 MUXOUT (out) "This multiplexer output allows either the lock detect, the scaled RF, or the scaled reference frequency to be accessed externally", 15 DVDD (power) "Digital Power Supply. This may range from 2.7 V to 3.3 V. Decoupling capacitors to the digital ground plane should be placed as close as possible to this pin. [see datasheet]", 16 VP (power) "Charge Pump Power Supply. This should be greater than or equal to VDD. In systems where VDD is 3 V, it can be set to 5.5 V and used to drive a VCO with a tuning range of up to 5 V"

## ADF4106BRU-REEL7
designator U?
PLL Frequency Synthesizer, RU-16, 1000 Reel; Single/Dual: Single; Max RF Input (MHz): 6GHz; RF Prescalers: 16/17, 32/33, 64/65, 8/9; Max REFin (MHz): 300MHz; Norm Phase Noise (dBc/Hz): -223dBc; Frequency Range: 500MHz-6GHz; Supply Current: 10.5mA; DatasheetVersion: Rev. D; PackageVersion: Nov-2002; PackageReference: RU-16; PackageDescription: 16-Lead Thin Shrink Small Outline Package [TSSOP]; Code_JEDEC: MO-153AB; ComponentLink1Description: Manufacturer URL; ComponentLink1URL: www.analog.com; ComponentLink2Description: Datasheet; ComponentLink2URL: http://www.analog.com/static/imported-files/data_sheets/ADF4106.pdf; ComponentLink3Description: Package Specification; ComponentLink3URL: http://www.analog.com/static/imported-files/packages/36244347913743854010197452789RU16.pdf
footprint ADI-RU-16_N (TSOP, 16-Leads, Body 5x4.4mm, Pitch 0.65mm, IPC Medium Density)
footprint ADI-RU-16_L (TSOP, 16-Leads, Body 5x4.4mm, Pitch 0.65mm, IPC High Density)
footprint ADI-RU-16_M (TSOP, 16-Leads, Body 5x4.4mm, Pitch 0.65mm, IPC Low Density)
pins: 1 RSET (in) "Connecting a resistor between this pin and CPGND sets the maximum charge pump output current. The nominal voltage potential at the RSET pin is 0.66 V", 2 CP (out) "Charge Pump Output. When enabled, this provides +/-ICP to the external loop filter, which in turn drives the external VCO", 3 CPGND (power) "Charge Pump Ground. This is the ground return path for the charge pump", 4 AGND (power) "Analog Ground. This is the ground return path of the prescaler", 5 RFINB (in) "Complementary Input to the RF Prescaler. This point must be decoupled to the ground plane with a small bypass capacitor, typically 100 pF", 6 RFINA (in) "Input to the RF Prescaler. This small signal input is ac-coupled to the external VCO", 7 AVDD (power) "Analog Power Supply. This may range from 2.7 V to 3.3 V. Decoupling capacitors to the analog ground plane should be placed as close as possible to this pin. [see datasheet]", 8 REFIN (in) "Reference Input. This is a CMOS input with a nominal threshold of VDD/2 and a dc equivalent input resistance of 100 k ohm. See Figure 18. [see datasheet]", 9 DGND (power) "Digital Ground", 10 CE (in) "Chip Enable. A logic low on this pin powers down the device and puts the charge pump output into three-state mode. [see datasheet]", 11 CLK (in) "Serial Clock Input. This serial clock is used to clock in the serial data to the registers. The data is latched into the 24-bit shift register on the CLK rising edge. [see datasheet]", 12 DATA (in) "Serial Data Input. The serial data is loaded MSB first with the two LSBs being the control bits. This input is a high impedance CMOS input", 13 LE (in) "Load Enable, CMOS Input. When LE goes high, the data stored in the shift registers is loaded into one of the four latches with the latch being selected using the control bits", 14 MUXOUT (out) "This multiplexer output allows either the lock detect, the scaled RF, or the scaled reference frequency to be accessed externally", 15 DVDD (power) "Digital Power Supply. This may range from 2.7 V to 3.3 V. Decoupling capacitors to the digital ground plane should be placed as close as possible to this pin. [see datasheet]", 16 VP (power) "Charge Pump Power Supply. This should be greater than or equal to VDD. In systems where VDD is 3 V, it can be set to 5.5 V and used to drive a VCO with a tuning range of up to 5 V"